# Altium schematic symbol library valk.SchLib: 28 symbols
Pins are listed as number, name and electrical type; pins without a type are passive.

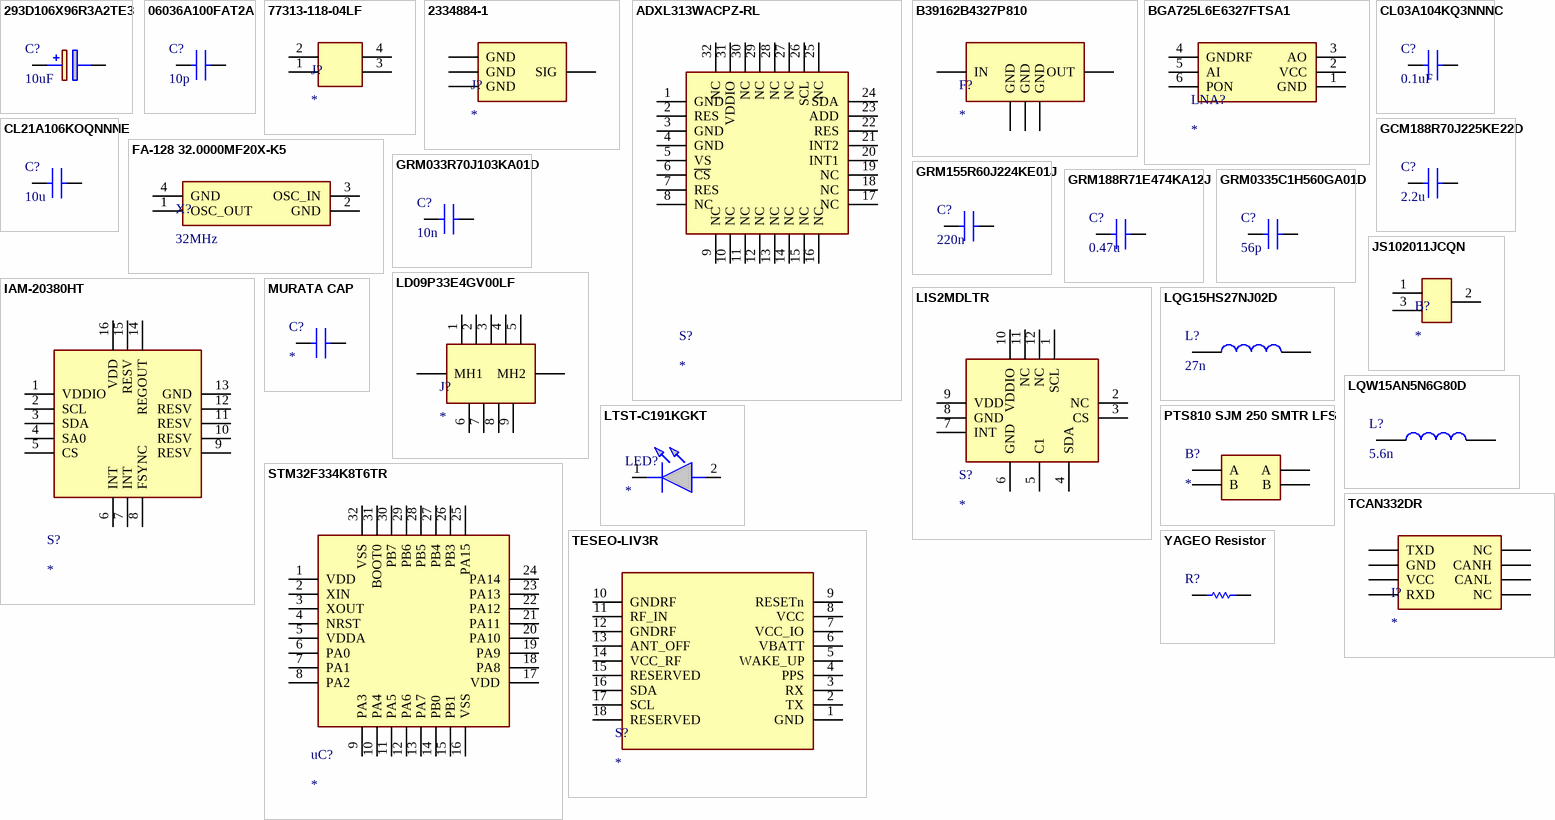
[diagram p0: symbols 293D106X96R3A2TE3 to YAGEO Resistor]

## 293D106X96R3A2TE3
designator C?, comment 10uF
CAP TANT 10UF 10% 6.3V 1206
footprint 293D106X96R3A2TE3 (CAP TANT 10UF 10% 6.3V 1206)
pins: 1 +, 2 -

## 06036A100FAT2A
designator C?, comment 10p
10 pF ±1% 6.3V Ceramic Capacitor C0G, NP0 0603 (1608 Metric)
footprint 06036A100FAT2A (10 pF ±1% 6.3V Ceramic Capacitor C0G, NP0 0603 (1608 Metric))
pins: 1, 2

## 77313-118-04LF
designator J?
Connector Header Through Hole 4 position 0.100" (2.54mm) /
footprint 77313-118-04LF (Connector Header Through Hole 4 position 0.100" (2.54mm))
pins: 1, 2, 3, 4

## 2334884-1
designator J?
U.FL (UMCC) Connector Receptacle, Male Pin 50 Ohms Surface Mount Solder
footprint 2334884-1 (U.FL (UMCC) Connector Receptacle, Male Pin 50 Ohms Surface Mount Solder)
pins: 1 SIG, 2 GND, 3 GND, 4 GND

## ADXL313WACPZ-RL
designator S?
Accelerometer X, Y, Z Axis ±0.5g, 1g, 2g, 4g 3.125Hz ~ 1.6kHz 32-LFCSP-LQ (5x5)
footprint ADXL313WACPZ-RL (Accelerometer X, Y, Z Axis ±0.5g, 1g, 2g, 4g 3.125Hz ~ 1.6kHz 32-LFCSP-LQ (5x5))
pins: 1 GND, 2 RES, 3 GND, 4 GND, 5 VS, 6 ~{CS}, 7 RES, 8 NC, 9 NC, 10 NC, 11 NC, 12 NC, 13 NC, 14 NC, 15 NC, 16 NC, 17 NC, 18 NC, 19 NC, 20 INT1, 21 INT2, 22 RES, 23 ADD, 24 SDA, 25 NC, 26 SCL, 27 NC, 28 NC, 29 NC, 30 NC, 31 VDDIO, 32 NC

## B39162B4327P810
designator F?
Frequency RF SAW Filter (Surface Acoustic Wave) Bandwidth 5-SMD, No Lead
footprint B39162B4327P810 (Frequency RF SAW Filter (Surface Acoustic Wave) Bandwidth 5-SMD, No Lead)
pins: 1 IN, 2 GND, 3 GND, 4 OUT, 5 GND

## BGA725L6E6327FTSA1
designator LNA?
RF Amplifier IC GPS/GNSS 1.55GHz ~ 1.615GHz TSLP-6-2
footprint BGA725L6E6327FTSA1 (RF Amplifier IC GPS/GNSS 1.55GHz ~ 1.615GHz TSLP-6-2)
pins: 1 GND, 2 VCC, 3 AO, 4 GNDRF, 5 AI, 6 PON

## CL03A104KQ3NNNC
designator C?, comment 0.1uF
CAP CER 0.1UF 6.3V X5R 0201
footprint CL03A104KQ3NNNC (CAP CER 0.1UF 6.3V X5R 0201)
pins: 1, 2

## CL21A106KOQNNNE
designator C?, comment 10u
10 µF ±10% 16V Ceramic Capacitor X5R 0805 (2012 Metric)
footprint CL21A106KOQNNNE (10 µF ±10% 16V Ceramic Capacitor X5R 0805 (2012 Metric))
pins: 1, 2

## FA-128 32.0000MF20X-K5
designator X?, comment 32MHz
32 MHz ±10ppm Crystal 10pF 60 Ohms 4-SMD, No Lead
footprint FA-128 32.0000MF20X-K5 (32 MHz ±10ppm Crystal 10pF 60 Ohms 4-SMD, No Lead)
pins: 1 OSC_OUT, 2 GND, 3 OSC_IN, 4 GND

## GCM188R70J225KE22D
designator C?, comment 2.2u
2.2 µF ±10% 6.3V Ceramic Capacitor X7R 0603 (1608 Metric)
footprint GCM188R70J225KE22D (2.2 µF ±10% 6.3V Ceramic Capacitor X7R 0603 (1608 Metric))
pins: 1, 2

## GRM033R70J103KA01D
designator C?, comment 10n
10000 pF ±10% 6.3V Ceramic Capacitor X7R 0201 (0603 Metric)
footprint GRM033R70J103KA01D (10000 pF ±10% 6.3V Ceramic Capacitor X7R 0201 (0603 Metric))
pins: 1, 2

## GRM155R60J224KE01J
designator C?, comment 220n
0.22 µF ±10% 6.3V Ceramic Capacitor X5R 0402 (1005 Metric)
footprint GRM155R60J224KE01J (0.22 µF ±10% 6.3V Ceramic Capacitor X5R 0402 (1005 Metric))
pins: 1, 2

## GRM188R71E474KA12J
designator C?, comment 0.47u
0.47 µF ±10% 25V Ceramic Capacitor X7R 0603 (1608 Metric)
footprint GRM188R71E474KA12J (0.47 µF ±10% 25V Ceramic Capacitor X7R 0603 (1608 Metric))
pins: 1, 2

## GRM0335C1H560GA01D
designator C?, comment 56p
56 pF ±2% 50V Ceramic Capacitor C0G, NP0 0201 (0603 Metric)
footprint GRM0335C1H560GA01D (56 pF ±2% 50V Ceramic Capacitor C0G, NP0 0201 (0603 Metric))
pins: 1, 2

## IAM-20380HT
designator S?
Gyroscope X (Pitch), Y (Roll), Z (Yaw) ±250, 500, 1000, 2000 5Hz ~ 250Hz I²C, SPI 16-LGA (3x3)
footprint IAM-20380HT (Gyroscope X (Pitch), Y (Roll), Z (Yaw) ±250, 500, 1000, 2000 5Hz ~ 250Hz I²C, SPI 16-LGA (3x3))
pins: 1 VDDIO, 2 SCL, 3 SDA, 4 SA0, 5 CS, 6 INT, 7 INT, 8 FSYNC, 9 RESV, 10 RESV, 11 RESV, 12 RESV, 13 GND, 14 REGOUT, 15 RESV, 16 VDD

## JS102011JCQN
designator B?
Slide Switch SPDT Surface Mount /
footprint JS102011JCQN (Slide Switch SPDT Surface Mount)
pins: 1, 2, 3

## LD09P33E4GV00LF
designator J?
9 Position D-Sub Plug, Male Pins Connector
footprint LD09P33E4GV00LF (9 Position D-Sub Plug, Male Pins Connector)
pins: 1, 2, 3, 4, 5, 6, 7, 8, 9, MH1, MH2

## LIS2MDLTR
designator S?
Magnetoresistive Sensor X, Y, Z Axis 12-LGA (2x2)
footprint LIS2MDLTR (Magnetoresistive Sensor X, Y, Z Axis 12-LGA (2x2))
pins: 1 SCL, 2 NC, 3 CS, 4 SDA , 5 C1, 6 GND, 7 INT, 8 GND, 9 VDD, 10 VDDIO, 11 NC, 12 NC

## LQG15HS27NJ02D
designator L?, comment 27n
27 nH Unshielded Multilayer Inductor 350 mA 460mOhm Max 0402 (1005 Metric)
footprint LQG15HS27NJ02D (27 nH Unshielded Multilayer Inductor 350 mA 460mOhm Max 0402 (1005 Metric))
pins: 1, 2

## LQW15AN5N6G80D
designator L?, comment 5.6n
5.6 nH Unshielded Drum Core, Wirewound Inductor 1.77 A 40mOhm Max 0402 (1005 Metric)
footprint LQW15AN5N6G80D (5.6 nH Unshielded Drum Core, Wirewound Inductor 1.77 A 40mOhm Max 0402 (1005 Metric))
pins: 1, 2

## LTST-C191KGKT
designator LED?
Green 571nm LED Indication - Discrete 2V 0603 (1608 Metric)
footprint LTST-C191KGKT (Green 571nm LED Indication - Discrete 2V 0603 (1608 Metric))
pins: 1 K, 2 A

## MURATA CAP
designator C?
Generic 0402 CAP
footprint MURATA CAP (Generic 0402 Capacitor)
pins: 1, 2

## PTS810 SJM 250 SMTR LFS
designator B?
Tactile Switch SPST-NO Top Actuated Surface Mount
footprint PTS810 SJM 250 SMTR LFS (Tactile Switch SPST-NO Top Actuated Surface Mount)
pins: 1 A, 2 A, 3 B, 4 B

## STM32F334K8T6TR
designator uC?
ARM® Cortex®-M4 STM32F3 Microcontroller IC 32-Bit Single-Core 72MHz 64KB (64K x 8) FLASH 32-LQFP (7x7)
footprint STM32F334K8T6TR (ARM® Cortex®-M4 STM32F3 Microcontroller IC 32-Bit Single-Core 72MHz 64KB (64K x 8) FLASH 32-LQFP (7x7))
pins: 1 VDD, 2 XIN, 3 XOUT, 4 NRST, 5 VDDA, 6 PA0, 7 PA1, 8 PA2, 9 PA3, 10 PA4, 11 PA5, 12 PA6, 13 PA7, 14 PB0, 15 PB1, 16 VSS, 17 VDD, 18 PA8, 19 PA9, 20 PA10, 21 PA11, 22 PA12, 23 PA13, 24 PA14, 25 PA15, 26 PB3, 27 PB4, 28 PB5, 29 PB6, 30 PB7, 31 BOOT0, 32 VSS

## TCAN332DR
designator I?
1/1 Transceiver CANbus 8-SOIC /
footprint TCAN332DR (1/1 Transceiver CANbus 8-SOIC)
pins: 1 TXD, 2 GND, 3 VCC, 4 RXD, 5 NC, 6 CANL, 7 CANH, 8 NC

## TESEO-LIV3R
designator S?
RF Receiver BeiDou, GLONASS, GNSS, GPS 1.561GHz, 1.575MHz -163dBm Not Included 18-LCC (9.7x10.1)
footprint TESEO-LIV3R (RF Receiver BeiDou, GLONASS, GNSS, GPS 1.561GHz, 1.575MHz -163dBm Not Included 18-LCC (9.7x10.1))
pins: 1 GND, 2 TX, 3 RX, 4 PPS, 5 WAKE_UP, 6 VBATT, 7 VCC_IO, 8 VCC, 9 RESETn, 10 GNDRF, 11 RF_IN, 12 GNDRF, 13 ANT_OFF, 14 VCC_RF, 15 RESERVED, 16 SDA, 17 SCL, 18 RESERVED

## YAGEO Resistor
designator R?
RES XK OHM 1% 1/16W 0402
footprint YAGEO Resistor
pins: 2, 2